# Altium footprint library USB-RIAA.PcbLib: 37 footprints (part 3 of 3)
Each footprint in its own frame and in the unit in brackets; x right, y up, seen from the top. Pads: shape width x height; smd on the part's side, far side on the other; paste and mask are expansions set on the pad; w line width, h text height; cw(c..) or ccw(c..) is an arc to the next point about the centre after c.
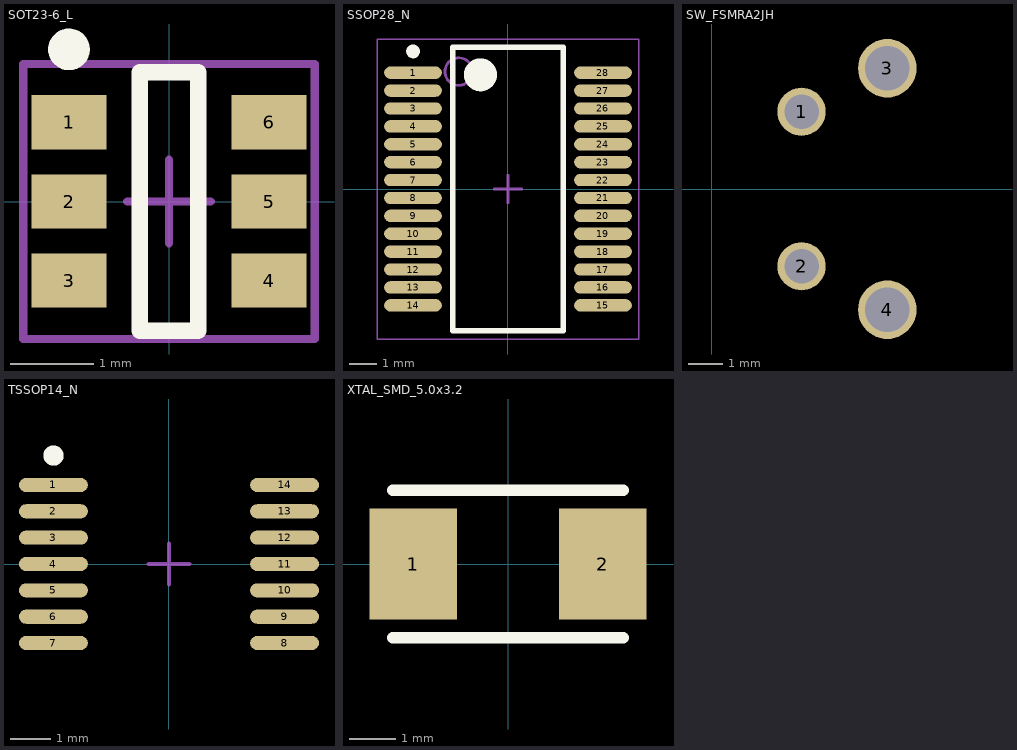
[diagram p2: the footprints below, top view; thin cyan lines are the x and y axes]

## SOT23-6_L [mm] "SOT23, 6-Leads, Body 2.9x1.6mm, Pitch 0.95mm, Lead Span 2.7mm, IPC High Density"
height 1.45
pads (6):
  rect 0.9x0.65 smd: 1(-1.2,0.95) 2(-1.2,0) 3(-1.2,-0.95) 4(1.2,-0.95) 5(1.2,0) 6(1.2,0.95)
Top Overlay:
  circle w0.25: c-1.2,1.825 r0.125
  lines w0.2: -0.35,-1.55 0.35,-1.55 0.35,1.55 -0.35,1.55 -0.35,-1.55
Mechanical 15:
  lines w0.1: -0.5,0 0.5,0 ; 0,-0.5 0,0.5 ; -1.75,-1.65 -1.75,1.65 1.75,1.65 1.75,-1.65 -1.75,-1.65
3D body "SOT23-6.stp": height 1.2, standoff 0.02, extent -1.418,-1.5 1.418,1.5

## SSOP28_N [mm] "SOP, 28-Leads, Body 10.2x5.3mm, Pitch 0.65mm, IPC Medium Density"
height 1.99
pads (28):
  oval 2.1x0.45 smd mask+0.05: 1(-3.45,4.225) 2(-3.45,3.575) 3(-3.45,2.925) 4(-3.45,2.275) 5(-3.45,1.625) 6(-3.45,0.975) 7(-3.45,0.325) 8(-3.45,-0.325) 9(-3.45,-0.975) 10(-3.45,-1.625) 11(-3.45,-2.275) 12(-3.45,-2.925) 13(-3.45,-3.575) 14(-3.45,-4.225) 15(3.45,-4.225) 16(3.45,-3.575) 17(3.45,-2.925) 18(3.45,-2.275) 19(3.45,-1.625) 20(3.45,-0.975) 21(3.45,-0.325) 22(3.45,0.325) 23(3.45,0.975) 24(3.45,1.625) 25(3.45,2.275) 26(3.45,2.925) 27(3.45,3.575) 28(3.45,4.225)
Top Overlay:
  circle w0.6: c-1,4.15 r0.3
  circle w0.25: c-3.45,5 r0.125
  lines w0.2: -2,-5.15 2,-5.15 2,5.15 -2,5.15 -2,-5.15
Mechanical 13:
  circle w0.1: c-1.79,4.265 r0.5
Mechanical 15:
  lines w0.05: -4.75,-5.45 4.75,-5.45 4.75,5.45 -4.75,5.45 -4.75,-5.45
  lines w0.1: -0.5,0 0.5,0 ; 0,-0.5 0,0.5
3D body "ssop28.stp": height 1.9, standoff 0, extent -3.8,-5.1 4,5.1

## SW_FSMRA2JH [mm] "Switch; 2 Leads"
height 7.01
pads (4):
  round 1.4 hole 1: 1(2.61,2.245) 2(2.61,-2.245)
  round 1.7 hole 1.3: 3(5.1,3.505) 4(5.1,-3.505)
3D body "c-1-1825027-4-g1-3d.stp": height 7.02, standoff -3.49, extent -3.556,-4.204 6.591,4.204

## TSSOP14_N [mm] "TSOP, 14-Leads, Body 6.5x4.4mm, Pitch 0.65mm, IPC Medium Density"
height 1.2
pads (14):
  oval 1.7x0.35 smd: 1(-2.85,1.95) 2(-2.85,1.3) 3(-2.85,0.65) 4(-2.85,0) 5(-2.85,-0.65) 6(-2.85,-1.3) 7(-2.85,-1.95) 8(2.85,-1.95) 9(2.85,-1.3) 10(2.85,-0.65) 11(2.85,0) 12(2.85,0.65) 13(2.85,1.3) 14(2.85,1.95)
Top Overlay:
  circle w0.25: c-2.85,2.675 r0.125
Mechanical 15:
  lines w0.1: -0.5,0 0.5,0 ; 0,-0.5 0,0.5
3D body "tssop_14.step": height 1.22, standoff 0, extent -3.211,-2.503 3.192,2.497

## XTAL_SMD_5.0x3.2 [mm]
pads (2):
  rect 1.9x2.4 smd: 1(-2.05,0) 2(2.05,0)
Top Overlay:
  lines w0.254: -2.5,-1.6 2.5,-1.6 ; -2.5,1.6 2.5,1.6
3D body "crystal 8MHz.stp": height 1.2, standoff 0, extent -2.54,-1.524 2.46,1.676